# Altium schematic symbol library TSW-102-07-SS-S.SchLib: 1 symbol
Pins are listed as number, name and electrical type; pins without a type are passive.

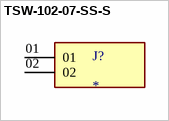
[diagram p0: symbol TSW-102-07-SS-S]

## TSW-102-07-SS-S
designator J?
MF: {'manufacturer': u'Samtec'}; MP: TSW-102-07-SS-S; Package: None; Price: None; Value: *; Availability: Unavailable
footprint SAMTEC_TSW-102-07-SS-S
pins: 01, 02